# EAGLE library part T-2046 (library dec-con)
T-2046 Transformer
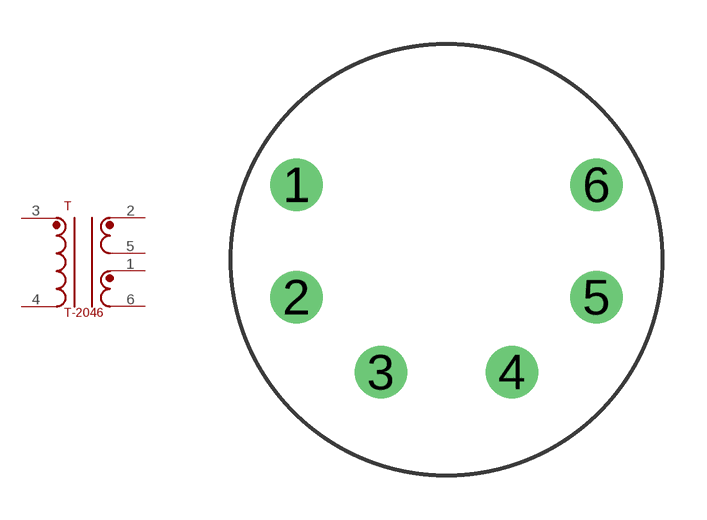
[diagram p51: symbol with the pads of TRANSFORMER6; footprint TRANSFORMER6]

Designator prefix T

## T-2046  [TRANSFORMER6]
1  1  pas
2  2  pas
3  3  pas
4  4  pas
5  5  pas
6  6  pas

## Footprint TRANSFORMER6 (pad centres in mm)
6 Pin Toroidal Transformer 1-6
drill 0.813 pad 1.778: 1 -5.08,2.54; 2 -5.08,-1.27; 3 -2.223,-3.81; 4 2.223,-3.81; 5 5.08,-1.27; 6 5.08,2.54